# Altium schematic symbol library WP-PFICFA.SchLib: 3 symbols
Pins are listed as number, name and electrical type; pins without a type are passive.

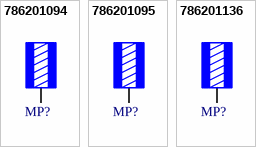
[diagram p0: symbols 786201094 to 786201136]

## 786201094
designator MP?  (value not drawn)
WP-PFICFA REDCUBE PRESS-FIT ASP Internal thread Circumference, 9 x 9mm, M4, 180A; Manufacturer: Wurth Elektronik; Thread Length: 5mm; Manufacturer Part Number: 786201094; Category: REDCUBE PRESS-FIT; Match Code: WP-PFICFA; ComponentLink1Description: Website Link; ComponentLink1URL: https://www.we-online.com/redexpert/article/786201094?ad; ComponentLink2Description: Datasheet Link; ComponentLink2URL: https://www.we-online.com/redexpert/spec/786201094?ad; Mount: Press Fit; Operating Temperature Max: 150°C; Operating Temperature Min: -55°C; Packaging: Bulk; Length: 9mm; Width: 9mm; Height: 8mm; Automotive: Yes; Number of Pins: 12; Rated Current: 180A; Thread Size: M4
footprint 786201094
pins: 1

## 786201095
designator MP?  (value not drawn)
WP-PFICFA REDCUBE PRESS-FIT ASP Internal thread Circumference, 9 x 9mm, M5, 180A; Manufacturer: Wurth Elektronik; Thread Length: 5mm; Manufacturer Part Number: 786201095; Category: REDCUBE PRESS-FIT; Match Code: WP-PFICFA; ComponentLink1Description: Website Link; ComponentLink1URL: https://www.we-online.com/redexpert/article/786201095?ad; ComponentLink2Description: Datasheet Link; ComponentLink2URL: https://www.we-online.com/redexpert/spec/786201095?ad; Mount: Press Fit; Operating Temperature Max: 150°C; Operating Temperature Min: -55°C; Packaging: Bulk; Length: 9mm; Width: 9mm; Height: 8mm; Automotive: Yes; Number of Pins: 12; Rated Current: 180A; Thread Size: M5
footprint 786201095
pins: 1

## 786201136
designator MP?  (value not drawn)
WP-PFICFA REDCUBE PRESS-FIT ASP Internal thread Circumference, 13 x 13mm, M6, 250A; Manufacturer: Wurth Elektronik; Thread Length: 8mm; Manufacturer Part Number: 786201136; Category: REDCUBE PRESS-FIT; Match Code: WP-PFICFA; ComponentLink1Description: Website Link; ComponentLink1URL: https://www.we-online.com/redexpert/article/786201136?ad; ComponentLink2Description: Datasheet Link; ComponentLink2URL: https://www.we-online.com/redexpert/spec/786201136?ad; Mount: Press Fit; Operating Temperature Max: 150°C; Operating Temperature Min: -55°C; Packaging: Bulk; Length: 13mm; Width: 13mm; Height: 11mm; Automotive: Yes; Number of Pins: 16; Rated Current: 250A; Thread Size: M6
footprint 786201136
pins: 1